# Altium footprint library TCM1-63AX&plus_.PcbLib: 1 footprints
Each footprint in its own frame and in the unit in brackets; x right, y up, seen from the top. Pads: shape width x height; smd on the part's side, far side on the other; paste and mask are expansions set on the pad; w line width, h text height; cw(c..) or ccw(c..) is an arc to the next point about the centre after c.
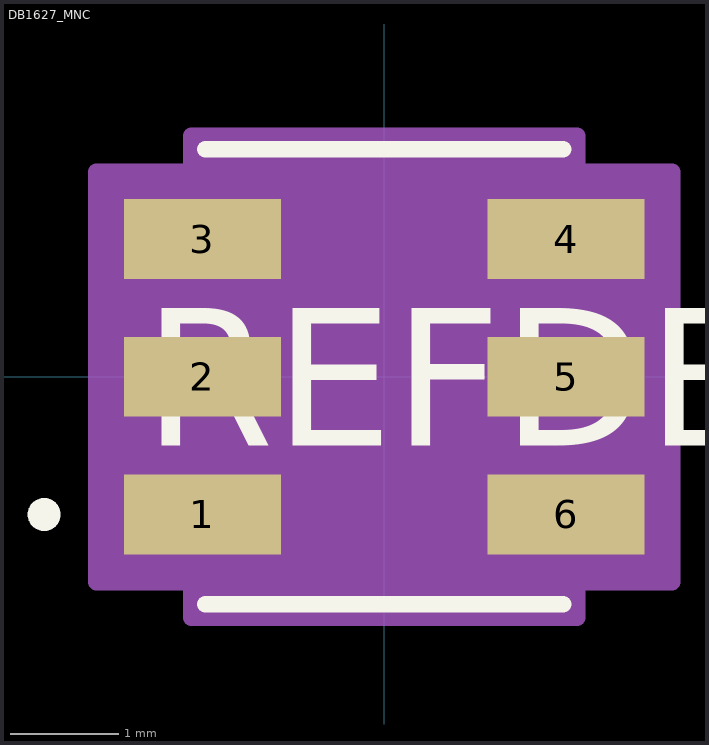
[diagram p0: the footprint, top view; thin cyan lines are the x and y axes]

## DB1627_MNC [mil]
pads (6):
  rect 57x29 smd paste+0 mask+0: 1(-66,-50) 2(-66,0) 3(-66,50) 4(66,50) 5(66,0) 6(66,-50)
Top Overlay:
  circle w6: c-123.5,-50 r3
  lines w6: -65,-82.5 65,-82.5 ; -65,82.5 65,82.5
  text "REFDES" at -87.5,-25 h50
Mechanical 13:
  circle w6: c-37.5,50 r0
  lines w0: -12,77.5 ccw(c0,77.5) 12,77.5
  lines w1: -60,-77.5 60,-77.5 60,77.5 -60,77.5 -60,-77.5
  text "RefDes2" at -87.5,-25 h50
Mechanical 15:
  region: -70,-74.5 -104.5,-74.5 -104.5,74.5 -70,74.5 -70,87.5 70,87.5 70,74.5 104.5,74.5 104.5,-74.5 70,-74.5 70,-87.5 -70,-87.5
  lines w6: -104.5,-74.5 -104.5,74.5 -70,74.5 -70,87.5 70,87.5 70,74.5 104.5,74.5 104.5,-74.5 70,-74.5 70,-87.5 -70,-87.5 -70,-74.5 -104.5,-74.5